# Altium schematic symbol library AL3S10LG144.SchLib: 1 symbol
Pins are listed as number, name and electrical type; pins without a type are passive.

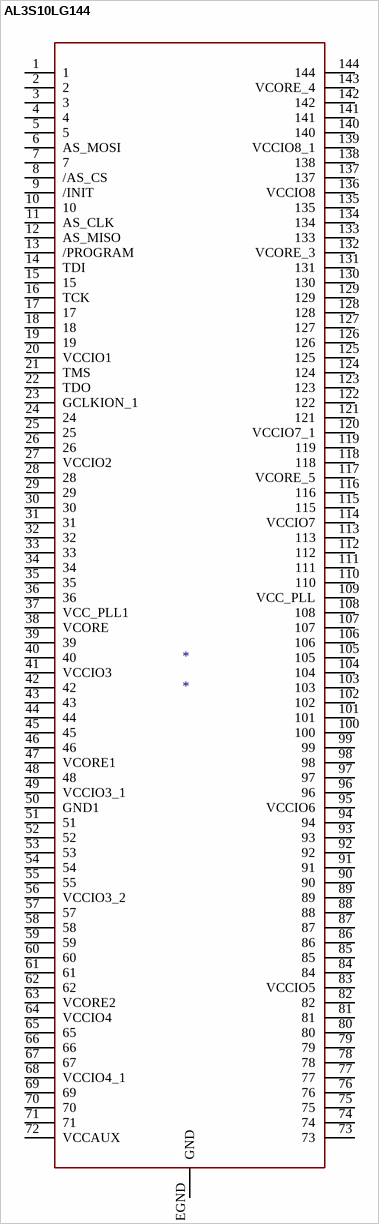
[diagram p0: symbol AL3S10LG144]

## AL3S10LG144
designator *
footprint AL_EQFP144
pins: 1, 2, 3, 4, 5, 6 AS_MOSI, 7, 8 /AS_CS, 9 /INIT, 10, 11 AS_CLK, 12 AS_MISO, 13 /PROGRAM, 14 TDI, 15, 16 TCK, 17, 18, 19, 20 VCCIO1, 21 TMS, 22 TDO, 23 GCLKION_1, 24, 25, 26, 27 VCCIO2, 28, 29, 30, 31, 32, 33, 34, 35, 36, 37 VCC_PLL1, 38 VCORE, 39, 40, 41 VCCIO3, 42, 43, 44, 45, 46, 47 VCORE1, 48, 49 VCCIO3_1, 50 GND1, 51, 52, 53, 54, 55, 56 VCCIO3_2, 57, 58, 59, 60, 61, 62, 63 VCORE2, 64 VCCIO4, 65, 66, 67, 68 VCCIO4_1, 69, 70, 71, 72 VCCAUX, 73, 74, 75, 76, 77, 78, 79, 80, 81, 82, 83 VCCIO5, 84, 85, 86, 87, 88, 89, 90, 91, 92, 93, 94, 95 VCCIO6, 96, 97, 98, 99, 100, 101, 102, 103, 104, 105, 106, 107, 108, 109 VCC_PLL, 110, 111, 112, 113, 114 VCCIO7, 115, 116, 117 VCORE_5, 118, 119, 120 VCCIO7_1, 121, 122, 123, 124, 125, 126, 127, 128, 129, 130, 131, 132 VCORE_3, 133, 134, 135, 136 VCCIO8, 137, 138, 139 VCCIO8_1, 140, 141, 142, 143 VCORE_4, 144, EGND GND